# Altium footprint library SOP6_ADJ Inductor_1.PcbLib: 1 footprints
Each footprint in its own frame and in the unit in brackets; x right, y up, seen from the top. Pads: shape width x height; smd on the part's side, far side on the other; paste and mask are expansions set on the pad; w line width, h text height; cw(c..) or ccw(c..) is an arc to the next point about the centre after c.
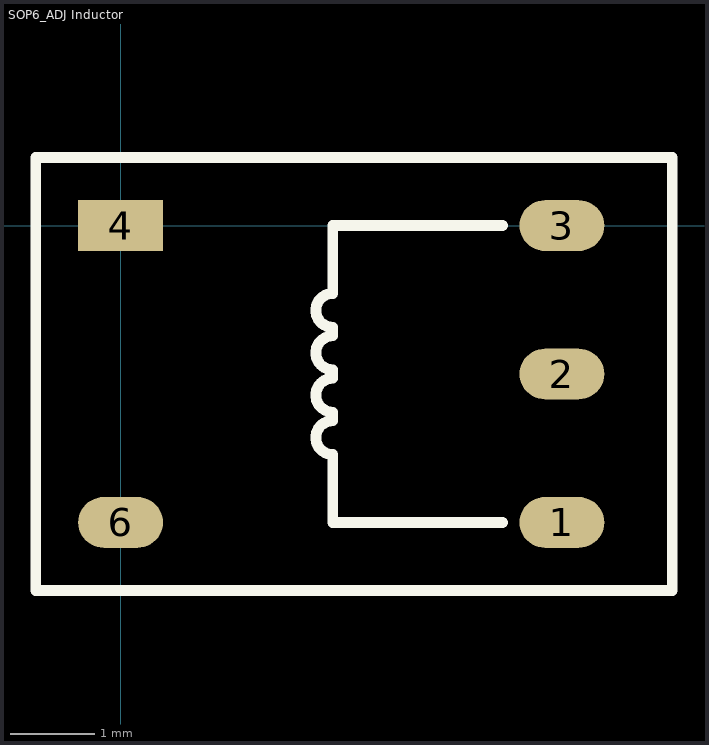
[diagram p0: the footprint, top view; thin cyan lines are the x and y axes]

## SOP6_ADJ Inductor [mm]
pads (5):
  oval 1x0.6 smd: 1(5.2,-3.5) 2(5.2,-1.75) 3(5.2,0) 6(0,-3.5)
  rect 1x0.6 smd: 4(0,0)
Top Overlay:
  lines w0.127: 4.5,-3.5 2.5,-3.5 2.5,-2.7 cw(c2.5,-2.5) 2.5,-2.3 2.5,-2.2 cw(c2.5,-2) 2.5,-1.8 2.5,-1.7 cw(c2.5,-1.5) 2.5,-1.3 2.5,-1.2 cw(c2.5,-1) 2.5,-0.8 2.5,-0.5 2.5,0 4.5,0 ; -1,-4.3 -1,0.8 6.5,0.8 6.5,-4.3 -1,-4.3